# Altium footprint library EsoCore.PcbLib: 105 footprints (part 4 of 7)
Each footprint in its own frame and in the unit in brackets; x right, y up, seen from the top. Pads: shape width x height; smd on the part's side, far side on the other; paste and mask are expansions set on the pad; w line width, h text height; cw(c..) or ccw(c..) is an arc to the next point about the centre after c.
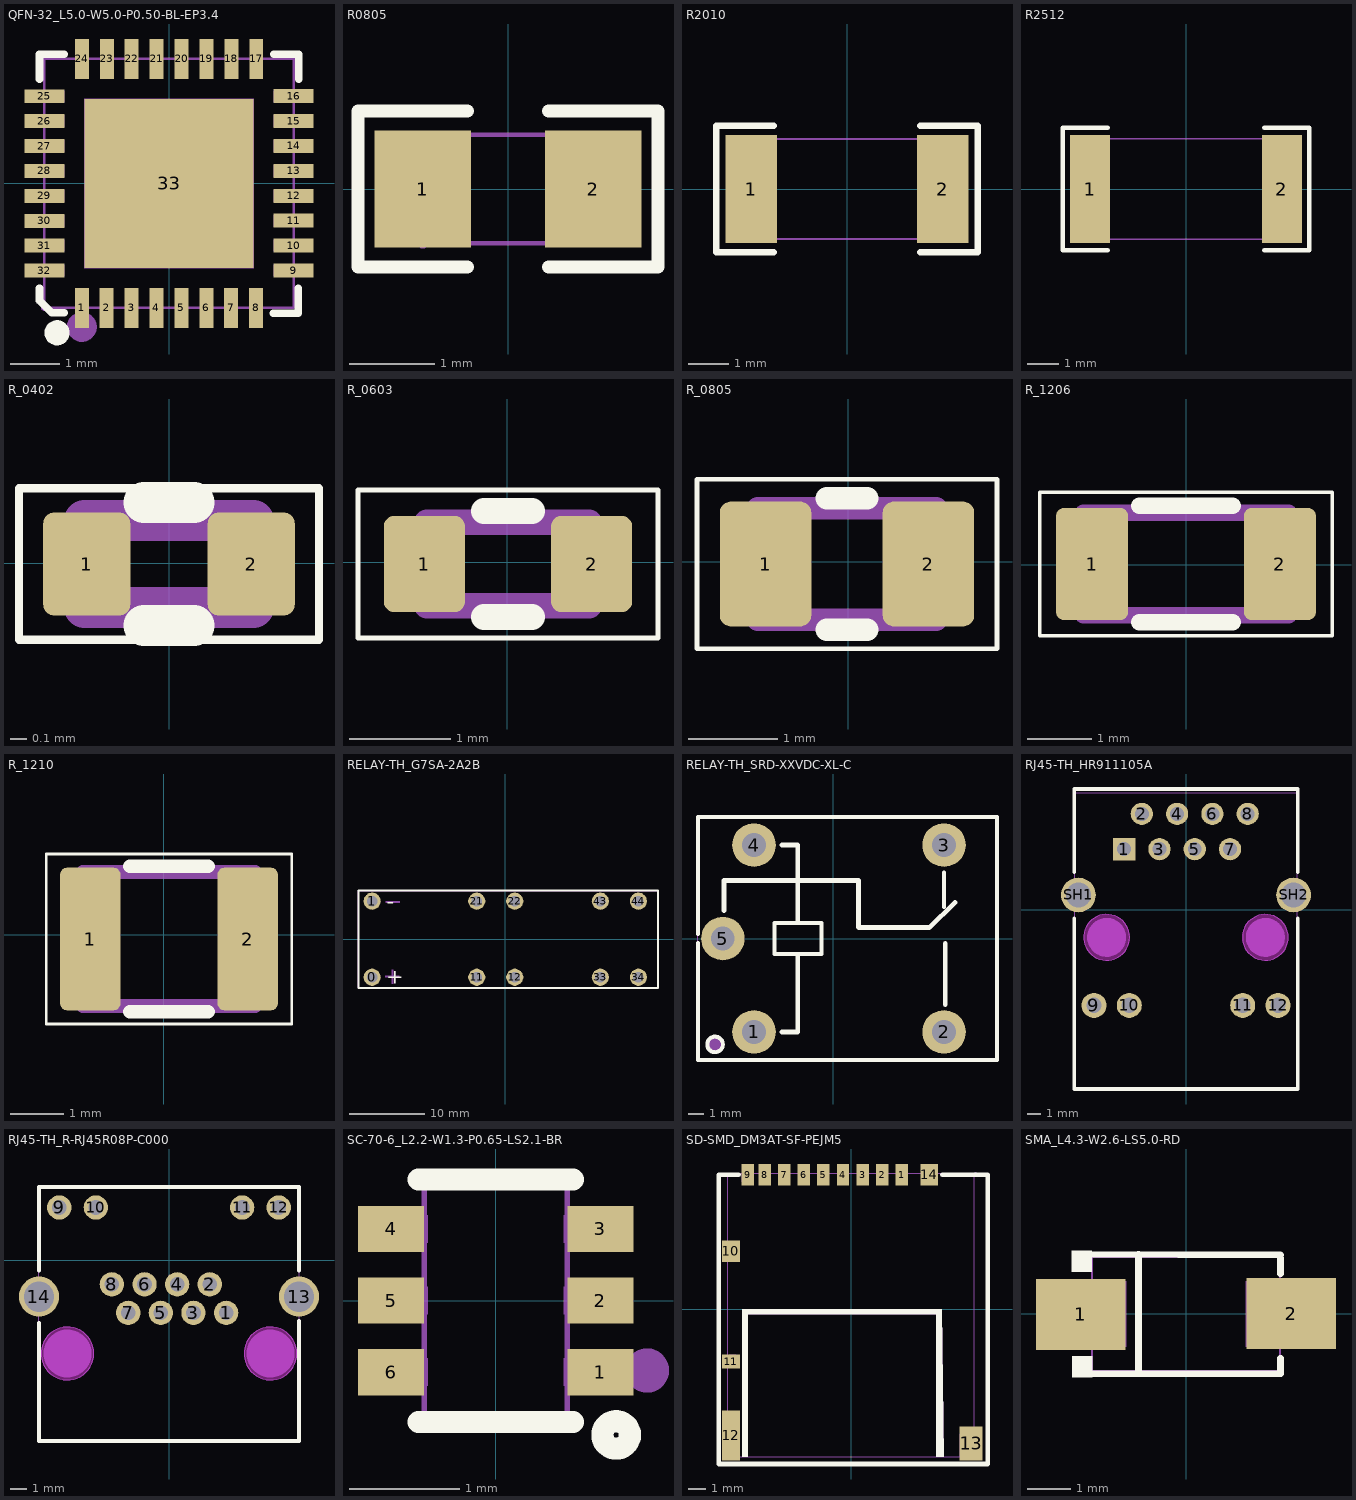
[diagram p3: the footprints below, top view; thin cyan lines are the x and y axes]

## QFN-32_L5.0-W5.0-P0.50-BL-EP3.4 [mm]
pads (33):
  rect 0.28x0.8 smd paste-100 mask+0.05: 1(-1.75,-2.5) 2(-1.251,-2.5) 3(-0.751,-2.5) 4(-0.251,-2.5) 5(0.249,-2.5) 6(0.749,-2.5) 7(1.249,-2.5) 8(1.749,-2.5) 17(1.752,2.5) 18(1.251,2.5) 19(0.752,2.5) 20(0.251,2.5) 21(-0.248,2.5) 22(-0.749,2.5) 23(-1.248,2.5) 24(-1.749,2.5)
  rect 0.8x0.28 smd paste-100 mask+0.05: 9(2.5,-1.748) 10(2.5,-1.248) 11(2.5,-0.748) 12(2.5,-0.248) 13(2.5,0.252) 14(2.5,0.752) 15(2.5,1.252) 16(2.5,1.752) 25(-2.5,1.75) 26(-2.5,1.25) 27(-2.5,0.75) 28(-2.5,0.25) 29(-2.5,-0.25) 30(-2.5,-0.75) 31(-2.5,-1.25) 32(-2.5,-1.75)
  rect 3.4x3.4 smd paste-100 mask+0.05: 33(0,0)
Top Overlay:
  circle w0.254: c-2.248,-2.998 r0.125
  lines w0.152: -2.6,-2.1 -2.6,-2.35 -2.35,-2.6 -2.1,-2.6 ; -2.599,2.097 -2.599,2.597 -2.099,2.597 ; 2.098,-2.602 2.598,-2.602 2.598,-2.103 ; 2.103,2.597 2.602,2.597 2.602,2.097
Top Paste:
  drawing of 33 lines, arcs and shapes, not listed
Mechanical 6:
  circle w0.3: c-1.75,-2.88 r0.15
Mechanical 15:
  drawing of 38 lines, arcs and shapes, not listed
3D body "usb3320.step": height 0.93, standoff 0, extent -2.51,-2.51 2.51,2.51

## R0805 [mm]
pads (2):
  rect 1.133x1.377 smd paste-100 mask+0.051: 1(-1,0) 2(1,0)
Top Overlay:
  lines w0.152: -0.476,-0.917 -1.761,-0.917 -1.761,0.917 -0.476,0.917 ; 0.476,-0.917 1.761,-0.917 1.761,0.917 0.476,0.917
Top Paste:
  region: -1.7,-0.64 -1.7,0.64 -1.65,0.69 -0.5,0.69 -0.45,0.64 -0.445,0.23 -0.895,0.23 -0.895,-0.22 -0.455,-0.22 -0.45,-0.64 -0.5,-0.69 -1.65,-0.69
  region: 0.45,-0.64 0.45,-0.22 0.895,-0.22 0.895,0.23 0.455,0.23 0.45,0.64 0.5,0.69 1.65,0.69 1.7,0.64 1.7,-0.64 1.65,-0.69 0.5,-0.69
Mechanical 15:
  region: -1,-0.637 -1,0.637 -0.6,0.637 -0.6,-0.637
  region: 1,-0.637 1,0.637 0.6,0.637 0.6,-0.637
  region: -1.06,-0.638 -1.06,-0.613 -1.025,-0.578 -0.975,-0.578 -0.94,-0.613 -0.94,-0.638 -0.94,-0.662 -0.975,-0.698 -1.025,-0.698 -1.06,-0.662 -1.06,-0.638
  lines w0.051: -1,-0.637 -1,0.637 1,0.637 1,-0.637 -1,-0.637

## R2010 [mm]
pads (2):
  rect 1.283x2.7 smd paste-100 mask+0.051: 1(-2.391,0) 2(2.391,0)
Top Overlay:
  lines w0.152: -1.826,-1.579 -3.261,-1.579 -3.261,1.579 -1.826,1.579 ; 1.826,-1.579 3.261,-1.579 3.261,1.579 1.826,1.579
Top Paste:
  region: 1.75,-1.25 1.75,-0.559 1.85,-0.459 2.086,-0.459 2.186,-0.359 2.186,0.359 2.086,0.459 1.85,0.459 1.75,0.559 1.75,1.25 1.85,1.35 2.933,1.35 3.033,1.25 3.033,-1.25 2.933,-1.35 1.85,-1.35
  region: -1.75,-1.25 -1.75,-0.559 -1.85,-0.459 -2.086,-0.459 -2.186,-0.359 -2.186,0.359 -2.086,0.459 -1.85,0.459 -1.75,0.559 -1.75,1.25 -1.85,1.35 -2.933,1.35 -3.033,1.25 -3.033,-1.25 -2.933,-1.35 -1.85,-1.35
Mechanical 15:
  region: -2.44,-1.25 -2.44,-1.275 -2.475,-1.31 -2.525,-1.31 -2.56,-1.275 -2.56,-1.25 -2.56,-1.225 -2.525,-1.19 -2.475,-1.19 -2.44,-1.225 -2.44,-1.25
  region: -2.5,1.25 -1.9,1.25 -1.9,-1.25 -2.5,-1.25
  region: 1.9,1.25 2.5,1.25 2.5,-1.25 1.9,-1.25
  lines w0.051: -2.5,-1.25 -2.5,1.25 2.5,1.25 2.5,-1.25 -2.5,-1.25
3D body "r2010X.step": height 0.61, standoff 0, extent -2.437,-1.272 2.563,1.228

## R2512 [mm]
pads (2):
  rect 1.283x3.456 smd paste-100 mask+0.051: 1(-3.066,0) 2(3.066,0)
Top Overlay:
  lines w0.152: -2.501,-1.957 -3.936,-1.957 -3.936,1.957 -2.501,1.957 ; 2.501,-1.957 3.936,-1.957 3.936,1.957 2.501,1.957
Top Paste:
  region: 2.425,-1.628 2.425,-0.688 2.525,-0.588 2.761,-0.588 2.861,-0.488 2.861,0.488 2.761,0.588 2.525,0.588 2.425,0.688 2.425,1.628 2.525,1.728 3.608,1.728 3.708,1.628 3.708,-1.628 3.608,-1.728 2.525,-1.728
  region: -2.425,-1.628 -2.425,-0.688 -2.525,-0.588 -2.761,-0.588 -2.861,-0.488 -2.861,0.488 -2.761,0.588 -2.525,0.588 -2.425,0.688 -2.425,1.628 -2.525,1.728 -3.608,1.728 -3.708,1.628 -3.708,-1.628 -3.608,-1.728 -2.525,-1.728
Mechanical 15:
  region: -3.115,-1.6 -3.115,-1.625 -3.15,-1.66 -3.2,-1.66 -3.235,-1.625 -3.235,-1.6 -3.235,-1.575 -3.2,-1.54 -3.15,-1.54 -3.115,-1.575 -3.115,-1.6
  region: -3.15,-1.6 -3.15,1.6 -2.55,1.6 -2.55,-1.6
  region: 2.55,-1.6 2.55,1.6 3.15,1.6 3.15,-1.6
  lines w0.051: -3.15,-1.6 -3.15,1.6 3.15,1.6 3.15,-1.6 -3.15,-1.6
3D body "R2512X.step": height 0.61, standoff 0.5, extent -2.544,-1.602 2.556,1.598

## R_0402 [mm]
pads (2):
  rrect25% 0.54x0.64 smd mask+0: 1(-0.51,-0.005) 2(0.51,-0.005)
Top Overlay:
  lines w0.051: -0.93,-0.475 0.93,-0.475 0.93,0.465 -0.93,0.465 -0.93,-0.475
  lines w0.254: -0.154,-0.385 0.154,-0.385 ; -0.154,0.375 0.154,0.375
Mechanical 10:
  lines w0.254: -0.525,-0.275 0.525,-0.275 0.525,0.265 -0.525,0.265 -0.525,-0.275
  text "'.Designator'" at -0.358,-0.175 h0.26
3D body "R_0402_1005Metric.step": height 0.35, standoff 0, extent -0.5,-0.256 0.5,0.244

## R_0603 [mm]
pads (2):
  rrect25% 0.8x0.95 smd mask+0: 1(-0.819,-0.019) 2(0.831,-0.019)
Top Overlay:
  lines w0.051: -1.474,-0.749 -1.474,0.711 1.486,0.711 1.486,-0.749 -1.474,-0.749
  lines w0.254: -0.231,-0.541 0.244,-0.541 ; -0.231,0.504 0.244,0.504
Mechanical 10:
  lines w0.254: -0.794,-0.431 -0.794,0.394 0.806,0.394 0.806,-0.431 -0.794,-0.431
  text "'.Designator'" at -0.447,-0.279 h0.4
3D body "R_0603_1608Metric.step": height 0.45, standoff 0, extent -0.794,-0.419 0.806,0.381

## R_0805 [mm]
pads (2):
  rrect24% 1.025x1.4 smd mask+0: 1(-0.925,-0.028) 2(0.9,-0.028)
Top Overlay:
  lines w0.051: -1.693,-0.978 1.667,-0.978 1.667,0.922 -1.693,0.922 -1.693,-0.978
  lines w0.254: -0.24,-0.763 0.214,-0.763 ; -0.24,0.707 0.214,0.707
Mechanical 10:
  lines w0.254: -1.013,-0.653 0.987,-0.653 0.987,0.597 -1.013,0.597 -1.013,-0.653
  text "'.Designator'" at -0.768,-0.358 h0.5
3D body "R_0805_2012Metric.step": height 0.45, standoff 0, extent -1.013,-0.632 0.987,0.568

## R_1206 [mm]
pads (2):
  rrect22% 1.125x1.75 smd mask+0: 1(-1.467,0.014) 2(1.458,0.014)
Top Overlay:
  lines w0.051: -2.284,-1.106 2.276,-1.106 2.276,1.134 -2.284,1.134 -2.284,-1.106
  lines w0.254: -0.731,-0.896 0.723,-0.896 ; -0.731,0.924 0.723,0.924
Mechanical 10:
  lines w0.254: -1.604,-0.786 1.596,-0.786 1.596,0.814 -1.604,0.814 -1.604,-0.786
  text "'.Designator'" at -1.082,-0.505 h0.8
3D body "R_1206_3216Metric.step": height 0.55, standoff 0, extent -1.6,-0.787 1.6,0.813

## R_1210 [mm]
pads (2):
  rrect22% 1.125x2.65 smd mask+0: 1(-1.361,-0.083) 2(1.564,-0.083)
Top Overlay:
  lines w0.051: -2.178,-1.663 -2.178,1.497 2.382,1.497 2.382,-1.663 -2.178,-1.663
  lines w0.254: -0.622,-1.438 0.825,-1.438 ; -0.622,1.272 0.825,1.272
Mechanical 10:
  lines w0.254: -1.498,-1.328 -1.498,1.162 1.702,1.162 1.702,-1.328 -1.498,-1.328
  text "'.Designator'" at -1.27,-0.602 h0.8
3D body "R_1210_3225Metric.step": height 0.55, standoff 0, extent -1.492,-1.333 1.708,1.167

## RELAY-TH_G7SA-2A2B [mm]
pads (10):
  round 2.3 hole 1.4 paste-2539.97 mask+0.05: 0(-17.78,-5.08) 1(-17.78,5.08) 11(-3.81,-5.08) 12(1.27,-5.08) 21(-3.81,5.08) 22(1.27,5.08) 33(12.7,-5.08) 34(17.78,-5.08) 43(12.7,5.08) 44(17.78,5.08)
Top Overlay:
  lines w0.254: -19.6,-6.5 -19.6,6.5 20.4,6.5 20.4,-6.5 -19.6,-6.5
  text "-" at -15.85,4.05 h2.03
  text "+" at -15.9,-5.95 h2.03
Mechanical 6:
  region: -15.965,5.098 -15.965,4.898 -14.115,4.898 -14.115,5.098
  region: -15.18,-5.93 -14.98,-5.93 -14.98,-4.08 -15.18,-4.08
  region: -16,-4.9 -16,-5.1 -14.15,-5.1 -14.15,-4.9
Mechanical 15:
  region: -4.06,-4.58 -3.56,-4.58 -3.56,-5.58 -4.06,-5.58
  region: 1.02,-4.58 1.52,-4.58 1.52,-5.58 1.02,-5.58
  region: 12.45,-4.58 12.95,-4.58 12.95,-5.58 12.45,-5.58
  region: 17.53,-4.58 18.03,-4.58 18.03,-5.58 17.53,-5.58
  region: 17.53,5.58 18.03,5.58 18.03,4.58 17.53,4.58
  region: 12.45,5.58 12.95,5.58 12.95,4.58 12.45,4.58
  region: 1.02,5.58 1.52,5.58 1.52,4.58 1.02,4.58
  region: -4.06,5.58 -3.56,5.58 -3.56,4.58 -4.06,4.58
  region: -18.03,5.58 -17.53,5.58 -17.53,4.58 -18.03,4.58
  region: -18.03,-4.58 -17.53,-4.58 -17.53,-5.58 -18.03,-5.58
  region: -19.55,6.5 -19.55,6.475 -19.585,6.44 -19.635,6.44 -19.67,6.475 -19.67,6.5 -19.67,6.525 -19.635,6.56 -19.585,6.56 -19.55,6.525 -19.55,6.5
  lines w0.051: -19.61,-6.5 20.39,-6.5 20.39,6.5 -19.61,6.5 -19.61,-6.5
3D body "RELAYX.step": height 24, standoff -1.8, extent -19.558,-6.477 20.32,6.477

## RELAY-TH_SRD-XXVDC-XL-C [mil]
pads (5):
  round 110 hole 60: 1(-200.79,-236.22) 2(279.52,-236.2) 3(279.53,236.2) 4(-200.79,236.22) 5(-279.53,0)
Top Overlay:
  circle w10: c-299.21,-267.72 r19.69
  lines w10: -342.49,-11.6 -342.49,-307.09 413.43,-307.09 ; -342.49,11.6 -342.49,307.09 413.42,307.09 413.43,-307.09 ; 279.5,79.5 279.5,167.2 ; -148.62,-39.37 -30.51,-39.37 -30.51,39.37 -148.62,39.37 -148.62,-39.37
  lines w11.81: -276.84,70.87 -276.84,146.74 63.16,146.74 63.16,28.63 64.11,27.68 222.22,27.68 242.22,27.68 ; -130.31,-236.22 -90.24,-236.22 -90.24,-41.39 ; -130.31,236.22 -90.24,236.22 -90.24,41.37 ; 242.13,27.6 307.11,90.9 ; 282.22,-167.6 282.22,-12.3
Mechanical 6:
  circle w19.68: c-299.21,-267.72 r9.84
Mechanical 15:
  region: -342.52,-304.71 -341.54,-304.71 -340.16,-306.09 -340.16,-308.05 -341.54,-309.43 -342.52,-309.43 -343.5,-309.43 -344.88,-308.05 -344.88,-306.09 -343.5,-304.71 -342.52,-304.71
  region: -271.66,21.65 -271.66,-21.65 -287.4,-21.65 -287.4,21.65
  region: 299.21,226.36 259.85,226.36 259.85,246.04 299.21,246.04
  region: 299.21,-246.04 259.85,-246.04 259.85,-226.36 299.21,-226.36
  region: -200.79,248.04 -198.44,248.04 -194.1,246.24 -190.77,242.91 -188.97,238.57 -188.97,233.87 -190.77,229.53 -194.1,226.2 -198.44,224.4 -200.79,224.4 -203.14,224.4 -207.48,226.2 -210.81,229.53 -212.61,233.87 -212.61,238.57 -210.81,242.91 -207.48,246.24 -203.14,248.04 -200.79,248.04
  region: -200.79,-224.4 -198.44,-224.4 -194.1,-226.2 -190.77,-229.53 -188.97,-233.87 -188.97,-238.57 -190.77,-242.91 -194.1,-246.24 -198.44,-248.04 -200.79,-248.04 -203.14,-248.04 -207.48,-246.24 -210.81,-242.91 -212.61,-238.57 -212.61,-233.87 -210.81,-229.53 -207.48,-226.2 -203.14,-224.4 -200.79,-224.4
  lines w2: -342.52,-307.07 -342.52,307.09 413.39,307.09 413.39,-307.07 -342.52,-307.07
3D body "RELAY3X.step": height 622.05, standoff -118.11, extent -340.76,-308.84 415.15,313.2

## RJ45-TH_HR911105A [mm]
pads (14):
  rect 1.6x1.6 hole 1: 1(-4.45,4.355)
  round 1.6 hole 1: 2(-3.18,6.895) 3(-1.91,4.355) 4(-0.64,6.895) 5(0.63,4.355) 6(1.9,6.895) 7(3.17,4.355) 8(4.44,6.895)
  round 1.8 hole 1.1: 9(-6.625,-6.895) 10(-4.085,-6.895) 11(4.085,-6.895) 12(6.625,-6.895)
  round 2.5 hole 1.8: SH1(-7.745,1.055) SH2(7.745,1.055)
Top Overlay:
  lines w0.254: -8.05,-0.615 -8.05,-12.915 8.05,-12.915 8.05,-0.615 ; -8.05,2.685 -8.05,8.685 8.05,8.685 ; 8.05,2.685 8.05,8.685
Keep-Out Layer:
  board cut-out: -4.065,-1.995 -4.065,-2.158 -4.128,-2.476 -4.253,-2.777 -4.433,-3.047 -4.663,-3.277 -4.933,-3.457 -5.234,-3.582 -5.552,-3.645 -5.878,-3.645 -6.196,-3.582 -6.497,-3.457 -6.767,-3.277 -6.997,-3.047 -7.177,-2.777 -7.302,-2.476 -7.365,-2.158 -7.365,-1.995 -7.365,-1.833 -7.302,-1.514 -7.177,-1.213 -6.997,-0.943 -6.767,-0.713 -6.497,-0.533 -6.196,-0.408 -5.878,-0.345 -5.552,-0.345 -5.234,-0.408 -4.933,-0.533 -4.663,-0.713 -4.433,-0.943 -4.253,-1.213 -4.128,-1.514 -4.065,-1.833 -4.065,-1.995
  board cut-out: 7.365,-1.995 7.365,-2.158 7.302,-2.476 7.177,-2.777 6.997,-3.047 6.767,-3.277 6.497,-3.457 6.196,-3.582 5.878,-3.645 5.552,-3.645 5.234,-3.582 4.933,-3.457 4.663,-3.277 4.433,-3.047 4.253,-2.777 4.128,-2.476 4.065,-2.158 4.065,-1.995 4.065,-1.833 4.128,-1.514 4.253,-1.213 4.433,-0.943 4.663,-0.713 4.933,-0.533 5.234,-0.408 5.552,-0.345 5.878,-0.345 6.196,-0.408 6.497,-0.533 6.767,-0.713 6.997,-0.943 7.177,-1.213 7.302,-1.514 7.365,-1.833 7.365,-1.995
Keep-Out Layer:
  circle w0.005: c-5.715,-1.995 r1.65
  circle w0.005: c5.715,-1.995 r1.65
  region: -4.065,-1.995 -4.065,-2.158 -4.128,-2.476 -4.253,-2.777 -4.433,-3.047 -4.663,-3.277 -4.933,-3.457 -5.234,-3.582 -5.552,-3.645 -5.878,-3.645 -6.196,-3.582 -6.497,-3.457 -6.767,-3.277 -6.997,-3.047 -7.177,-2.777 -7.302,-2.476 -7.365,-2.158 -7.365,-1.995 -7.365,-1.833 -7.302,-1.514 -7.177,-1.213 -6.997,-0.943 -6.767,-0.713 -6.497,-0.533 -6.196,-0.408 -5.878,-0.345 -5.552,-0.345 -5.234,-0.408 -4.933,-0.533 -4.663,-0.713 -4.433,-0.943 -4.253,-1.213 -4.128,-1.514 -4.065,-1.833 -4.065,-1.995
  region: 7.365,-1.995 7.365,-2.158 7.302,-2.476 7.177,-2.777 6.997,-3.047 6.767,-3.277 6.497,-3.457 6.196,-3.582 5.878,-3.645 5.552,-3.645 5.234,-3.582 4.933,-3.457 4.663,-3.277 4.433,-3.047 4.253,-2.777 4.128,-2.476 4.065,-2.158 4.065,-1.995 4.065,-1.833 4.128,-1.514 4.253,-1.213 4.433,-0.943 4.663,-0.713 4.933,-0.533 5.234,-0.408 5.552,-0.345 5.878,-0.345 6.196,-0.408 6.497,-0.533 6.767,-0.713 6.997,-0.943 7.177,-1.213 7.302,-1.514 7.365,-1.833 7.365,-1.995
Mechanical 1:
  circle w0.005: c-5.715,-1.995 r1.65
  circle w0.005: c5.715,-1.995 r1.65
Mechanical 6:
  circle w0.2: c-5.03,4.96 r0.1
  circle w1.4: c-5.715,-1.995 r0.7
  circle w1.4: c5.715,-1.995 r0.7
Mechanical 15:
  region: -7.96,8.405 -7.96,8.38 -7.995,8.345 -8.045,8.345 -8.08,8.38 -8.08,8.405 -8.08,8.43 -8.045,8.465 -7.995,8.465 -7.96,8.43 -7.96,8.405
  region: 4.14,7.045 4.74,7.045 4.74,6.745 4.14,6.745
  region: 2.87,4.505 3.47,4.505 3.47,4.205 2.87,4.205
  region: 1.6,7.045 2.2,7.045 2.2,6.745 1.6,6.745
  region: 0.33,4.505 0.93,4.505 0.93,4.205 0.33,4.205
  region: -0.94,7.045 -0.34,7.045 -0.34,6.745 -0.94,6.745
  region: -2.21,4.505 -1.61,4.505 -1.61,4.205 -2.21,4.205
  region: -3.48,7.045 -2.88,7.045 -2.88,6.745 -3.48,6.745
  region: -4.75,4.505 -4.15,4.505 -4.15,4.205 -4.75,4.205
  region: -6.925,-6.745 -6.325,-6.745 -6.325,-7.045 -6.925,-7.045
  region: -4.385,-6.745 -3.785,-6.745 -3.785,-7.045 -4.385,-7.045
  region: 3.785,-6.745 4.385,-6.745 4.385,-7.045 3.785,-7.045
  region: 6.325,-6.745 6.925,-6.745 6.925,-7.045 6.325,-7.045
  region: 7.72,0.455 7.72,1.655 8.02,1.655 8.02,0.455
  region: -8.02,0.455 -8.02,1.655 -7.72,1.655 -7.72,0.455
  lines w0.051: -8.02,-12.895 -8.02,8.405 8.02,8.405 8.02,-12.895 -8.02,-12.895
3D body "ethernte.step": height 13.84, standoff -3.3, extent -7.934,-13.075 7.934,8.525

## RJ45-TH_R-RJ45R08P-C000 [mil]
pads (14):
  round 60 hole 36: 1(140.55,-129.72) 2(100.39,-59.65) 3(60.23,-129.72) 4(20.08,-59.65) 5(-20.08,-129.72) 6(-60.24,-59.65) 7(-100.39,-129.72) 8(-140.55,-59.65) 9(-270.08,129.72) 10(-179.92,129.72) 11(179.92,129.72) 12(270.08,129.72)
  round 98.42 hole 74.8: 13(320.08,-89.57) 14(-320.08,-89.57)
Top Overlay:
  lines w10: -320.08,-25 -320.08,180 320.08,180 320.08,-25 ; -320,-155 -320,-445 320,-445 320,-150
Keep-Out Layer:
  board cut-out: 250,-164.76 256.4,-164.76 268.95,-167.26 280.77,-172.16 291.41,-179.27 300.46,-188.31 307.57,-198.95 312.46,-210.78 314.96,-223.33 314.96,-236.12 312.46,-248.67 307.57,-260.5 300.46,-271.14 291.41,-280.18 280.77,-287.29 268.95,-292.19 256.4,-294.69 250,-294.69 243.6,-294.69 231.05,-292.19 219.23,-287.29 208.59,-280.18 199.54,-271.14 192.43,-260.5 187.54,-248.67 185.04,-236.12 185.04,-223.33 187.54,-210.78 192.43,-198.95 199.54,-188.31 208.59,-179.27 219.23,-172.16 231.05,-167.26 243.6,-164.76 250,-164.76
  board cut-out: -250,-164.76 -243.6,-164.76 -231.05,-167.26 -219.23,-172.16 -208.59,-179.27 -199.54,-188.31 -192.43,-198.95 -187.54,-210.78 -185.04,-223.33 -185.04,-236.12 -187.54,-248.67 -192.43,-260.5 -199.54,-271.14 -208.59,-280.18 -219.23,-287.29 -231.05,-292.19 -243.6,-294.69 -250,-294.69 -256.4,-294.69 -268.95,-292.19 -280.77,-287.29 -291.41,-280.18 -300.46,-271.14 -307.57,-260.5 -312.46,-248.67 -314.96,-236.12 -314.96,-223.33 -312.46,-210.78 -307.57,-198.95 -300.46,-188.31 -291.41,-179.27 -280.77,-172.16 -268.95,-167.26 -256.4,-164.76 -250,-164.76
Keep-Out Layer:
  circle w0.2: c250,-229.72 r64.96
  circle w0.2: c-250,-229.72 r64.96
  region: 250,-164.76 256.4,-164.76 268.95,-167.26 280.77,-172.16 291.41,-179.27 300.46,-188.31 307.57,-198.95 312.46,-210.78 314.96,-223.33 314.96,-236.12 312.46,-248.67 307.57,-260.5 300.46,-271.14 291.41,-280.18 280.77,-287.29 268.95,-292.19 256.4,-294.69 250,-294.69 243.6,-294.69 231.05,-292.19 219.23,-287.29 208.59,-280.18 199.54,-271.14 192.43,-260.5 187.54,-248.67 185.04,-236.12 185.04,-223.33 187.54,-210.78 192.43,-198.95 199.54,-188.31 208.59,-179.27 219.23,-172.16 231.05,-167.26 243.6,-164.76 250,-164.76
  region: -250,-164.76 -243.6,-164.76 -231.05,-167.26 -219.23,-172.16 -208.59,-179.27 -199.54,-188.31 -192.43,-198.95 -187.54,-210.78 -185.04,-223.33 -185.04,-236.12 -187.54,-248.67 -192.43,-260.5 -199.54,-271.14 -208.59,-280.18 -219.23,-287.29 -231.05,-292.19 -243.6,-294.69 -250,-294.69 -256.4,-294.69 -268.95,-292.19 -280.77,-287.29 -291.41,-280.18 -300.46,-271.14 -307.57,-260.5 -312.46,-248.67 -314.96,-236.12 -314.96,-223.33 -312.46,-210.78 -307.57,-198.95 -300.46,-188.31 -291.41,-179.27 -280.77,-172.16 -268.95,-167.26 -256.4,-164.76 -250,-164.76
Mechanical 1:
  circle w0.2: c250,-229.72 r64.96
  circle w0.2: c-250,-229.72 r64.96
Mechanical 6:
  circle w59.05: c-250,-229.72 r29.53
  circle w59.05: c250,-229.72 r29.53
Mechanical 15:
  region: -150.39,-49.8 -130.71,-49.8 -130.71,-69.49 -150.39,-69.49
  region: -110.23,-119.88 -90.55,-119.88 -90.55,-139.57 -110.23,-139.57
  region: -70.08,-49.8 -50.4,-49.8 -50.4,-69.49 -70.08,-69.49
  region: -29.92,-119.88 -10.24,-119.88 -10.24,-139.57 -29.92,-139.57
  region: 10.24,-49.8 29.92,-49.8 29.92,-69.49 10.24,-69.49
  region: 50.4,-119.88 70.08,-119.88 70.08,-139.57 50.4,-139.57
  region: 90.55,-49.8 110.23,-49.8 110.23,-69.49 90.55,-69.49
  region: 130.71,-119.88 150.39,-119.88 150.39,-139.57 130.71,-139.57
  region: -320.08,-119.09 -320.08,-60.04 -308.27,-60.04 -308.27,-119.09
  region: 308.27,-119.09 308.27,-60.04 320.08,-60.04 320.08,-119.09
  region: 260.04,139.76 280.12,139.76 280.12,119.69 260.04,119.69
  region: 169.88,139.76 189.96,139.76 189.96,119.69 169.88,119.69
  region: -189.96,139.76 -169.88,139.76 -169.88,119.69 -189.96,119.69
  region: -280.12,139.76 -260.04,139.76 -260.04,119.69 -280.12,119.69
  region: 320.08,-439.96 321.06,-439.96 322.44,-441.35 322.44,-443.3 321.06,-444.69 320.08,-444.69 319.1,-444.69 317.72,-443.3 317.72,-441.35 319.1,-439.96 320.08,-439.96
  lines w2: -320.08,-442.33 320.08,-442.33 320.08,177.75 -320.08,177.75 -320.08,-442.33
3D body "ETHERNETX.step": height 503.94, standoff -118.11, extent -323.82,-445.87 323.82,186.02

## SC-70-6_L2.2-W1.3-P0.65-LS2.1-BR [mm]
pads (6):
  rect 0.6x0.42 smd: 1(0.95,-0.65) 2(0.95,0) 3(0.95,0.65) 4(-0.95,0.65) 5(-0.95,0) 6(-0.95,-0.65)
Top Overlay:
  lines w0.2: -0.7,-1.1 0.7,-1.1 ; -0.7,1.1 0.7,1.1 ; 1.091,-1.094 ccw(c1.092,-1.219) 1.093,-1.094
Mechanical 6:
  circle w0.2: c1.372,-0.635 r0.1
Mechanical 15:
  region: -0.616,0.775 -0.616,0.525 -0.761,0.525 -0.761,0.775
  region: -0.751,0.775 -0.751,0.525 -1.051,0.525 -1.051,0.775
  region: -0.751,0.125 -0.751,-0.125 -1.051,-0.125 -1.051,0.125
  region: -0.616,0.125 -0.616,-0.125 -0.761,-0.125 -0.761,0.125
  region: -0.751,-0.525 -0.751,-0.775 -1.051,-0.775 -1.051,-0.525
  region: -0.616,-0.525 -0.616,-0.775 -0.761,-0.775 -0.761,-0.525
  region: 0.753,-0.775 0.753,-0.525 1.053,-0.525 1.053,-0.775
  region: 0.618,-0.775 0.618,-0.525 0.763,-0.525 0.763,-0.775
  region: 0.753,-0.125 0.753,0.125 1.053,0.125 1.053,-0.125
  region: 0.618,-0.125 0.618,0.125 0.763,0.125 0.763,-0.125
  region: 0.753,0.525 0.753,0.775 1.053,0.775 1.053,0.525
  region: 0.618,0.525 0.618,0.775 0.763,0.775 0.763,0.525
  region: 1.113,-1.1 1.113,-1.075 1.078,-1.04 1.028,-1.04 0.993,-1.075 0.993,-1.1 0.993,-1.125 1.029,-1.16 1.078,-1.16 1.113,-1.125 1.113,-1.1
  lines w0.051: -0.65,-1.1 0.65,-1.1 0.65,1.1 -0.65,1.1 -0.65,-1.1
3D body "SC-70-6.STEP": height 1.1, standoff 0, extent -1.075,-0.975 1.025,1.025

## SD-SMD_DM3AT-SF-PEJM5 [mm]
pads (14):
  rect 0.7x1.2 smd: 1(2.85,7.55) 2(1.75,7.55) 3(0.65,7.55) 4(-0.45,7.55) 5(-1.55,7.55) 6(-2.65,7.55) 7(-3.75,7.55) 8(-4.85,7.55) 9(-5.8,7.55)
  rect 1x1.2 smd: 10(-6.75,3.25) 14(4.4,7.55)
  rect 1x0.8 smd: 11(-6.75,-2.95)
  rect 1x2.8 smd: 12(-6.75,-7.1)
  rect 1.3x1.9 smd: 13(6.75,-7.55)
Top Overlay:
  region: -6.1,-8.3 -6.1,0 5.1,0 5.2,-8.3 4.8,-8.3 4.8,-0.3 -5.8,-0.3 -5.8,-8.3
  lines w0.254: -6.294,7.55 -7.437,7.55 -7.437,-8.706 -7.31,-8.706 7.676,-8.706 7.676,7.55 5.136,7.55
Mechanical 6:
  region: -6.1,-8.3 -6.1,0 5.1,0 5.2,-8.3 4.8,-8.3 4.8,-0.3 -5.8,-0.3 -5.8,-8.3
Mechanical 15:
  drawing of 27 lines, arcs and shapes, not listed
3D body "SD CARDX.step": height 1.89, standoff 0, extent -6.855,-8.312 6.995,7.648

## SMA_L4.3-W2.6-LS5.0-RD [mm]
pads (2):
  rect 2.046x1.62 smd: 1(-2.404,-0.009) 2(2.404,0.009)
Top Overlay:
  region: -2.145,-1.44 -2.145,-0.962 -2.602,-0.962 -2.602,-1.44
  region: -2.158,1.44 -2.158,0.962 -2.615,0.962 -2.615,1.44
  lines w0.152: -2.526,1.364 2.159,1.346 ; -2.504,-1.364 2.165,-1.364 ; -1.085,-1.364 -1.085,1.364 ; 2.159,-1.364 2.159,-1.013 ; 2.159,0.919 2.159,1.27
Mechanical 6:
  region: 2.142,-0.644 2.142,0.644 1.949,0.644 1.949,-0.644
  region: 2.432,-0.097 2.432,0.097 1.659,0.097 1.659,-0.097
  region: -2.432,-0.097 -2.432,0.097 -1.659,0.097 -1.659,-0.097
Mechanical 15:
  region: -2.5,0.75 -2.5,-0.75 -1.36,-0.75 -1.36,0.75
  region: 2.5,-0.75 2.5,0.75 1.36,0.75 1.36,-0.75
  region: -2.44,-1.3 -2.44,-1.325 -2.475,-1.36 -2.525,-1.36 -2.56,-1.325 -2.56,-1.3 -2.56,-1.275 -2.525,-1.24 -2.475,-1.24 -2.44,-1.275 -2.44,-1.3
  lines w0.051: -2.15,-1.3 2.15,-1.3 2.15,1.3 -2.15,1.3 -2.15,-1.3
3D body "sma.step": height 2.23, standoff 0, extent -2.5,-1.3 2.5,1.3